# Altium schematic symbol library RCL06120000Z0EA.SchLib: 1 symbol
Pins are listed as number, name and electrical type; pins without a type are passive.

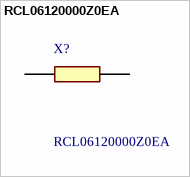
[diagram p0: symbol RCL06120000Z0EA]

## RCL06120000Z0EA
designator X?
Thick Film Resistors - SMD 3/4watt zero ohm 0612 100ppm; Manufacturer_Name: Vishay; Geometry.Height: 0.65mm; Mouser Part Number: 71-RCL06120000Z0EA; Mouser Price/Stock: https://www.mouser.co.uk/ProductDetail/Vishay-Draloric/RCL06120000Z0EA?qs=soOxy1Y66HMgSIG3Jz7lug%3D%3D; Manufacturer_Part_Number: RCL06120000Z0EA; Datasheet Link: *
footprint RESC1632X65N
pins: 1, 2